# EAGLE library part MOTOR_NFET (library MAAV)
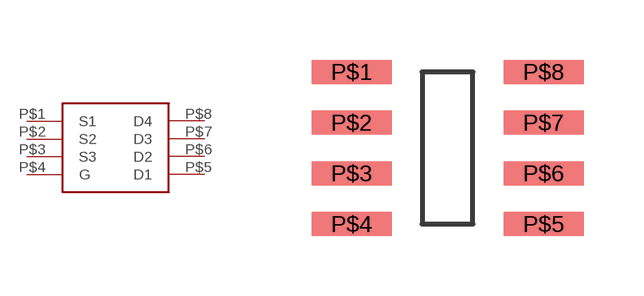
[diagram p9: symbol with the pads of 8-SOIC; footprint 8-SOIC]

Designator prefix T

## MOTOR_NFET (DIGIKEY: SI4114DY-T1-GE3CT-ND)  [8-SOIC]
P$1  S1
P$2  S2
P$3  S3
P$4  G
P$5  D1
P$6  D2
P$7  D3
P$8  D4

## Footprint 8-SOIC (pad centres in mm)
smd 2 x 0.6: P$1 -2.4,1.905; P$2 -2.4,0.635; P$3 -2.4,-0.635; P$4 -2.4,-1.905; P$5 2.4,-1.905; P$6 2.4,-0.635; P$7 2.4,0.635; P$8 2.4,1.905